# EAGLE library part IQS133 (library Spark)
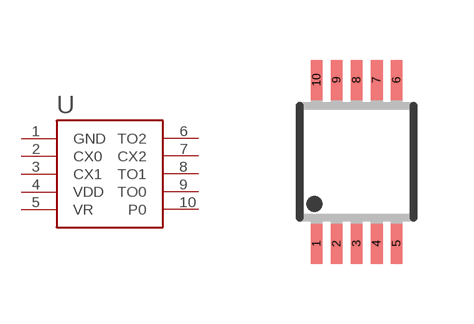
[diagram p2: symbol with the pads of MSOP10; footprint MSOP10]

Designator prefix -

## IQS133IQS133  [MSOP10]
1  GND
2  CX0
3  CX1
4  VDD
5  VR
6  TO2
7  CX2
8  TO1
9  TO0
10  P0

## Footprint MSOP10 (pad centres in mm)
10 Lead Platic MSOP Source: http://www.linear.com .. LT1996
smd 0.3 x 1: 1 -1,-2.05; 2 -0.5,-2.05; 3 0,-2.05; 4 0.5,-2.05; 5 1,-2.05; 6 1,2.05; 7 0.5,2.05; 8 0,2.05; 9 -0.5,2.05; 10 -1,2.05